# Altium footprint library CUI_TB003-500-P02BE.PcbLib: 1 footprints
Each footprint in its own frame and in the unit in brackets; x right, y up, seen from the top. Pads: shape width x height; smd on the part's side, far side on the other; paste and mask are expansions set on the pad; w line width, h text height; cw(c..) or ccw(c..) is an arc to the next point about the centre after c.
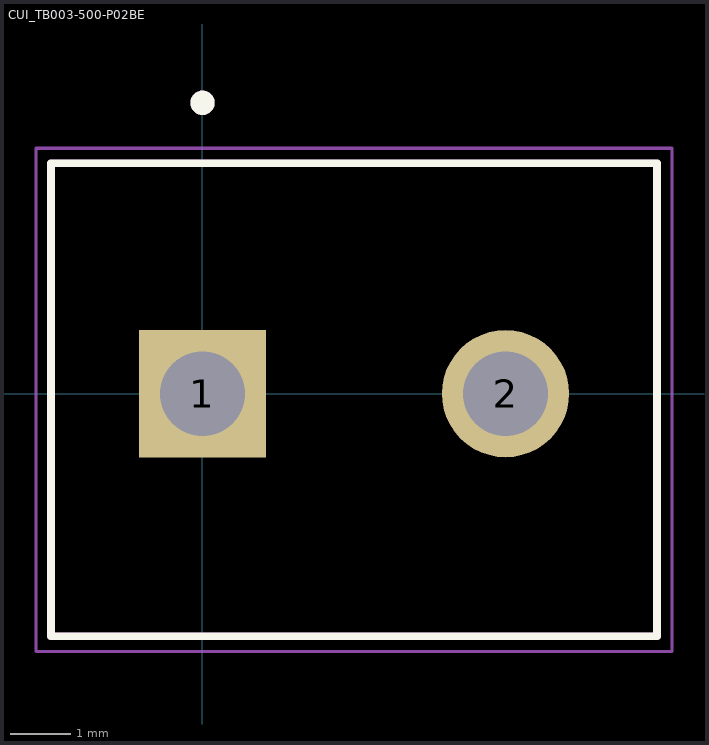
[diagram p0: the footprint, top view; thin cyan lines are the x and y axes]

## CUI_TB003-500-P02BE [mm]
pads (2):
  rect 2.1x2.1 / inner round 2.1 / far side rect 2.1x2.1 hole 1.4 mask+0.102: 1(0,0)
  round 2.1 hole 1.4 mask+0.102: 2(5,0)
Top Overlay:
  circle w0.2: c0,4.8 r0.1
  lines w0.127: -2.5,-4 7.5,-4 7.5,3.8 -2.5,3.8 -2.5,-4
Assembly Top:
  circle w0.2: c0,4.8 r0.1
  lines w0.127: -2.5,-4 7.5,-4 7.5,3.8 -2.5,3.8 -2.5,-4
Courtyard Top:
  lines w0.05: -2.75,-4.25 -2.75,4.05 7.75,4.05 7.75,-4.25 -2.75,-4.25
3D body "step_temp.STEP": height 10.3, standoff -4, extent 0,2.5 7.8,13